# Altium footprint library buzzer.PCBLIB: 39 footprints (part 3 of 3)
Each footprint in its own frame and in the unit in brackets; x right, y up, seen from the top. Pads: shape width x height; smd on the part's side, far side on the other; paste and mask are expansions set on the pad; w line width, h text height; cw(c..) or ccw(c..) is an arc to the next point about the centre after c.
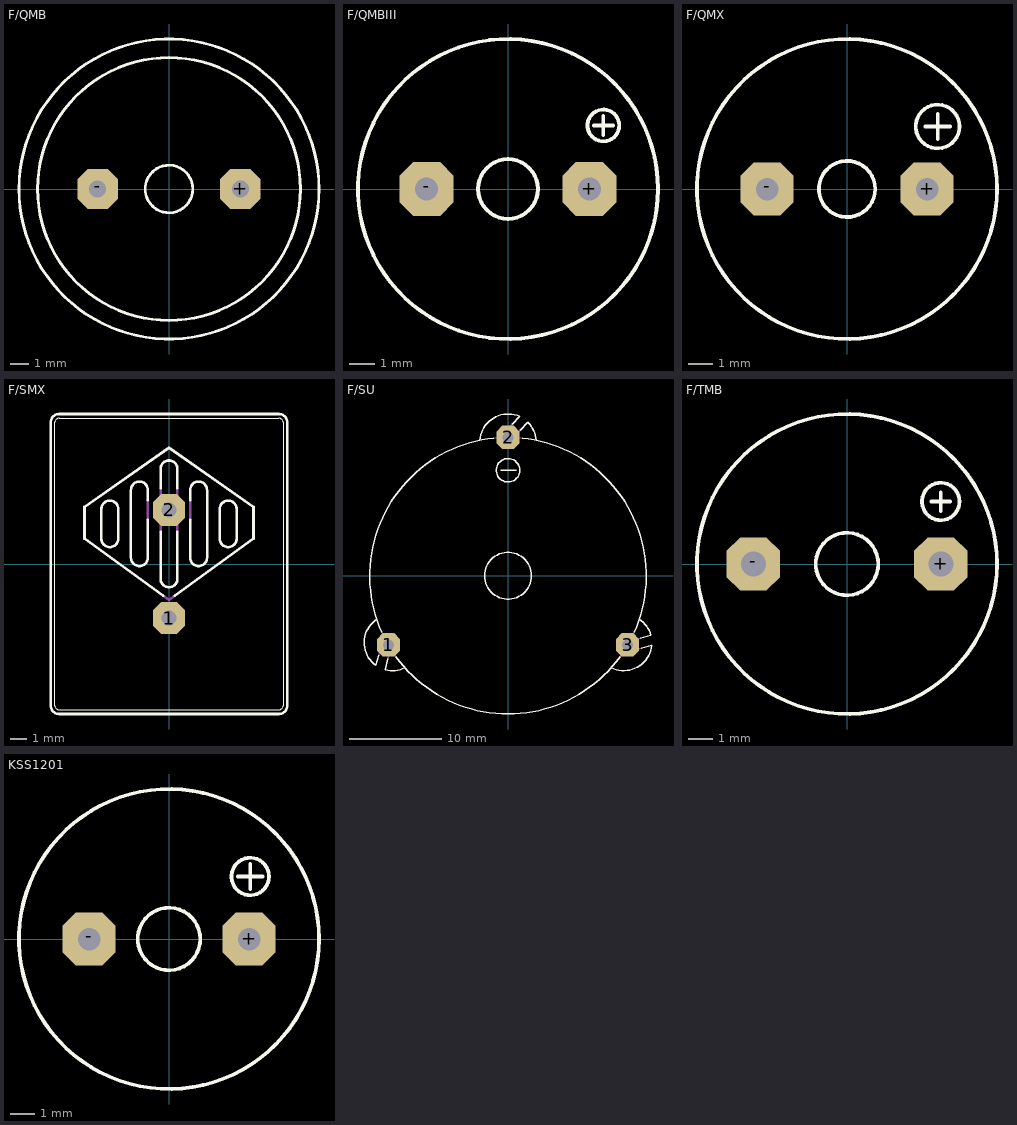
[diagram p2: the footprints below, top view; thin cyan lines are the x and y axes]

## F/QMB [mil]
pads (2):
  oct 85x85 hole 36: +(150,0) -(-150,0)
Top Overlay:
  circle w6: c0,0 r276
  circle w6: c0,0 r315
  circle w6: c0,0 r50

## F/QMBIII [mil]
pads (2):
  oct 85x85 hole 36: +(128,0) -(-128,0)
Top Overlay:
  circle w6: c0,0 r236
  circle w6: c0,0 r47
  circle w6: c150,100 r25
  lines w6: 135,100 165,100 ; 150,85 150,115

## F/QMX [mil]
pads (2):
  oct 85x85 hole 36: +(128,0) -(-128,0)
Top Overlay:
  circle w6: c0,0 r240
  circle w6: c0,0 r45
  circle w6: c145,100 r35
  lines w6: 125,100 165,100 ; 145,80 145,120

## F/SMX [mil]
pads (2):
  oct 75x75 hole 36: 1(0,-128) 2(0,128)
Top Overlay:
  lines w2: -270,-335 -270,335 cw(c-260,335) -260,345 260,345 cw(c260,335) 270,335 270,-335 cw(c260,-335) 260,-345 -260,-345 cw(c-260,-335) -270,-335
  lines w6: -50,105.08 -50,15 cw(c-70,15) -90,15 -90,175 cw(c-70,175) -50,175 -50,150.91 ; -20,76.77 -20,-35 ccw(c0,-35) 20,-35 20,76.77 ; -20,179.25 -20,225 cw(c0,225) 20,225 20,179.25 ; -14.06,-74.84 -200,60 -200,135 0,275 200,135 200,60 14.06,-74.84 ; 50,105.08 50,15 ccw(c70,15) 90,15 90,175 ccw(c70,175) 50,175 50,150.91 ; -280,-335 -280,335 cw(c-260,335) -260,355 260,355 cw(c260,335) 280,335 280,-335 cw(c260,-335) 260,-355 -260,-355 cw(c-260,-335) -280,-335 ; -160,60 -160,130 cw(c-140,130) -120,130 -120,60 cw(c-140,60) -160,60 ; 120,60 120,130 cw(c140,130) 160,130 160,60 cw(c140,60) 120,60
Mechanical 16:
  lines w6: -50,105.08 -50,150.91 ; -20,76.77 -20,179.25 ; -14.06,-74.84 0,-85 14.06,-74.84 ; 20,76.77 20,179.25 ; 50,105.08 50,150.91

## F/SU [mil]
pads (3):
  oct 100x100 hole 47: 1(-510,-295) 2(0,590) 3(510,-295)
Top Overlay:
  circle w6: c0,0 r100
  circle w6: c0,450 r50
  lines w6: -560.24,-185.05 ccw(c-493.64,-285) -563.7,-382.56 -551.97,-338.78 ; -538.28,-241.58 cw(c0,0) -59.92,586.95 ; -512.4,-355 -524.72,-401.02 ccw(c-493.63,-285.01) -440.37,-392.66 ; -478.35,-345.37 ccw(c0,0) 478.35,-345.37 ; -119.86,577.69 cw(c0,570) 49.45,679.45 17.4,647.4 ; -30,450 35,450 ; 51.22,621.22 84.92,654.92 cw(c-0.01,569.98) 119.86,577.69 ; 59.92,586.95 cw(c0,0) 538.28,-241.58 ; 440.37,-392.64 ccw(c493.63,-284.99) 613.15,-296.89 569.37,-308.62 ; 560.23,-185.05 cw(c493.64,-284.99) 609.64,-253.91 563.62,-266.26
Mechanical 16:
  lines w6: -551.97,-338.78 -530.43,-258.39 ; -538.28,-241.58 ccw(c-0.01,0.03) -478.35,-345.37 ; -512.4,-355 -500.83,-311.89 ; -59.92,586.95 cw(c0,0.01) 59.92,586.95 ; -41.46,588.54 17.4,647.4 ; 19.69,589.69 51.22,621.22 ; 478.35,-345.37 ccw(c0.01,0.03) 538.28,-241.58 ; 488.98,-330.16 569.37,-308.62 ; 520.51,-277.8 563.62,-266.26

## F/TMB [mil]
pads (2):
  oct 85x85 hole 40: +(150,0) -(-150,0)
Top Overlay:
  circle w6: c0,0 r240
  circle w6: c0,0 r50
  circle w6: c150,100 r30
  lines w6: 135,100 165,100 ; 150,85 150,115

## KSS1201 [mil]
pads (2):
  oct 85x85 hole 36: +(128,0) -(-128,0)
Top Overlay:
  circle w6: c0,0 r50
  circle w6: c0,0 r240
  circle w6: c130,100 r30
  lines w6: 110,100 150,100 ; 130,80 130,120